# Altium schematic symbol library Components.SchLib: 13 symbols
Pins are listed as number, name and electrical type; pins without a type are passive.

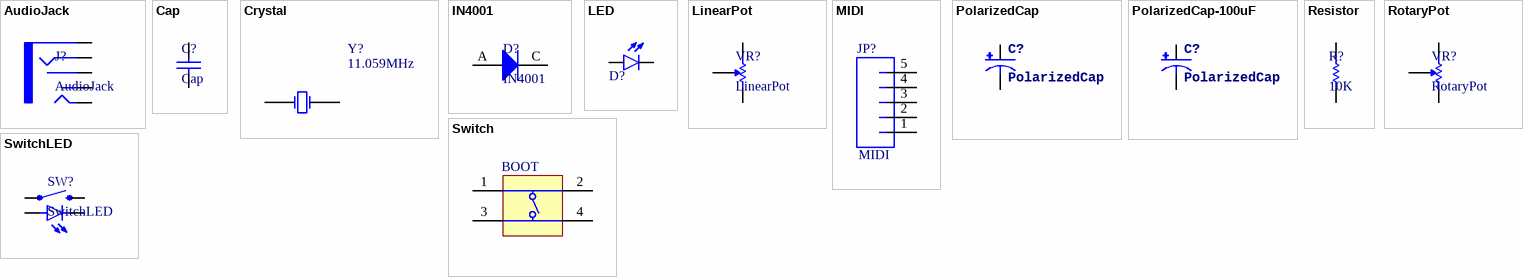
[diagram p0: symbols AudioJack to SwitchLED]

## AudioJack
designator J?
footprint AUDIO_JACK
pins: RING, RSH, SLEEVE, TIP, TSH

## Cap
designator C?
footprint CAP-PTH
pins: 1, 2

## Crystal
designator Y?, comment 11.059MHz
footprint CRYSTAL_PTH
pins: 1 X1, 2 X2

## IN4001
designator D?
footprint DIODE-1N4001
pins: A, C K

## LED
designator D?
PartNumber: LTST-C193TGKT-5A; Manufacturer: Lite-On Inc.; PackageReference: 0603; PackageDescription: 0603 (1608 Metric); Mounting Technology: Surface Mount
footprint LED5MM
pins: A, K

## LinearPot
designator VR?
footprint LINEAR_POT
pins: 1, 2, 3

## MIDI
designator JP?
footprint DIN_5_FEMALE
pins: 1, 2, 3, 4, 5

## PolarizedCap
designator C?
footprint CPOL-RADIAL
pins: 1 +, 2 -

## PolarizedCap-100uF
designator C?, comment PolarizedCap
footprint CPOL-RADIAL-100UF-25V
pins: 1 +, 2 -

## Resistor
designator R?, comment 10K
footprint RESISTOR
pins: 1, 2

## RotaryPot
designator VR?
footprint ROTARY_POT
pins: 1, 2, 3

## Switch
designator BOOT
Switch, SPNO Push Button SMD
footprint TACTILE_SWITCH
pins: 1 T1, 2 T2, 3 T3, 4 T3

## SwitchLED
designator SW?
footprint TACTILE-PTH-LED
pins: 2, 4 1, A, C